# Altium footprint library CoinCellHolder.PcbLib: 1 footprints
Each footprint in its own frame and in the unit in brackets; x right, y up, seen from the top. Pads: shape width x height; smd on the part's side, far side on the other; paste and mask are expansions set on the pad; w line width, h text height; cw(c..) or ccw(c..) is an arc to the next point about the centre after c.
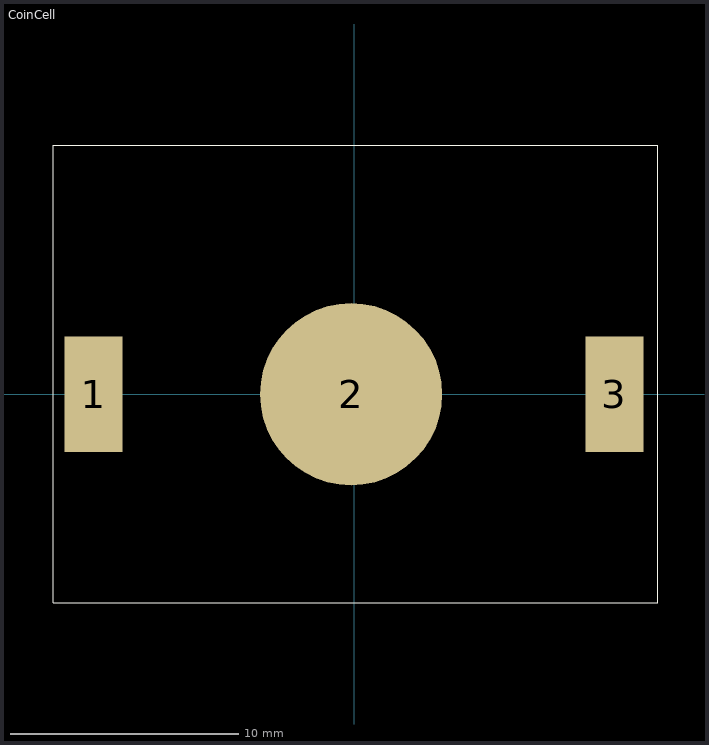
[diagram p0: the footprint, top view; thin cyan lines are the x and y axes]

## CoinCell [mm] "coin cell holder"
pads (3):
  rect 2.54x5.08 smd: 1(-11.43,0) 3(11.43,0)
  round 8 smd: 2(-0.127,0)
Top Overlay:
  lines w0.051: -13.208,-9.144 13.335,-9.144 13.335,10.922 -13.208,10.922 -13.208,-9.144